# EAGLE library part RTL8305NB (library misc)
Single chip 5-port 10/100M ethernet switch controller
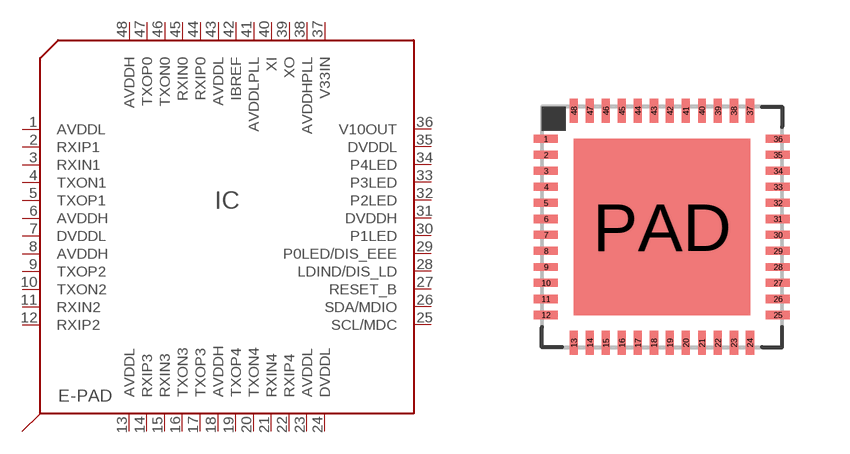
[diagram p61: symbol with the pads of QFN48(6X6); footprint QFN48(6X6)]

Designator prefix IC

## RTL8305NB (MANF: REALTEK; MANF#: RTL8305NB-CG)  [QFN48(6X6)]
1  AVDDL
2  RXIP1
3  RXIN1
4  TXON1
5  TXOP1
6  AVDDH
7  DVDDL
8  AVDDH
9  TXOP2
10  TXON2
11  RXIN2
12  RXIP2
13  AVDDL
14  RXIP3
15  RXIN3
16  TXON3
17  TXOP3
18  AVDDH
19  TXOP4
20  TXON4
21  RXIN4
22  RXIP4
23  AVDDL
24  DVDDL
25  SCL/MDC
26  SDA/MDIO
27  RESET_B
28  LDIND/DIS_LD
29  P0LED/DIS_EEE
30  P1LED
31  DVDDH
32  P2LED
33  P3LED
34  P4LED
35  DVDDL
36  V10OUT
37  V33IN
38  AVDDHPLL
39  XO
40  XI
41  AVDDLPLL
42  IBREF
43  AVDDL
44  RXIP0
45  RXIN0
46  TXON0
47  TXOP0
48  AVDDH
PAD  EPAD

## Footprint QFN48(6X6) (pad centres in mm)
smd 0.6 x 0.2: 1 -2.9,2.2; 2 -2.9,1.8; 3 -2.9,1.4; 4 -2.9,1; 5 -2.9,0.6; 6 -2.9,0.2; 7 -2.9,-0.2; 8 -2.9,-0.6; 9 -2.9,-1; 10 -2.9,-1.4; 11 -2.9,-1.8; 12 -2.9,-2.2; 25 2.9,-2.2; 26 2.9,-1.8; 27 2.9,-1.4; 28 2.9,-1; 29 2.9,-0.6; 30 2.9,-0.2; 31 2.9,0.2; 32 2.9,0.6; 33 2.9,1; 34 2.9,1.4; 35 2.9,1.8; 36 2.9,2.2
smd 0.2 x 0.6: 13 -2.2,-2.9; 14 -1.8,-2.9; 15 -1.4,-2.9; 16 -1,-2.9; 17 -0.6,-2.9; 18 -0.2,-2.9; 19 0.2,-2.9; 20 0.6,-2.9; 21 1,-2.9; 22 1.4,-2.9; 23 1.8,-2.9; 24 2.2,-2.9; 37 2.2,2.9; 38 1.8,2.9; 39 1.4,2.9; 40 1,2.9; 41 0.6,2.9; 42 0.2,2.9; 43 -0.2,2.9; 44 -0.6,2.9; 45 -1,2.9; 46 -1.4,2.9; 47 -1.8,2.9; 48 -2.2,2.9
smd 4.4 x 4.4: PAD 0,0